# Altium schematic symbol library Schematic_Inductor.SchLib: 6 symbols
Pins are listed as number, name and electrical type; pins without a type are passive.

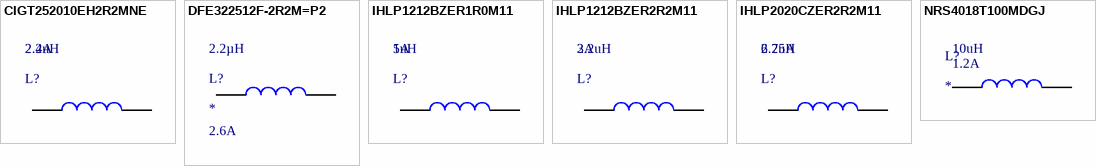
[diagram p0: symbols CIGT252010EH2R2MNE to NRS4018T100MDGJ]

## CIGT252010EH2R2MNE
designator L?  Current Rating: 2.4A  Inductance: 2.2uH  (hidden comment: *)
FIXED IND 2.2UH 2.4A 80MOHM SMD; Manufacturer: Samsung; Manufacturer Part Number: CIGT252010EH2R2MNE; Core Material: Metal,Composite; Tolerance: 20%; Saturation Current: 2.7A; Shielding: Unshielded; DC Resistance (DCR): 80mR; Test Frequency: 1MHz; Supplier 1: Digi-Key; RoHS: No; Stock 1: 35283; Pricing 1: 1=0.28000, 10=0.25300, 100=0.17390, 500=0.14864, 1000=0.11385 (USD); Mount: Surface Mount; Case/Package: 1008; Case Code (Imperial): 1008; Case Code (Metric): 2520; Min Operating Temperature: -40°C; Max Operating Temperature: 125°C; Composition: Thin Film; Packaging: Tape and Reel; ComponentLink1URL: http://www.samsungsem.com/kr/support/product-search/inductor/CIGT252010EH2R2MNE.jsp?src-supplier=Digi-Key; ComponentLink1Description: http://www.samsungsem.com/kr/support/product-search/inductor/CIGT252010EH2R2MNE.jsp?src-supplier=Digi-Key
footprint INDC2520X10N (Chip Inductor, 2-Leads, Body 2.50x2.00mm, IPC Medium Density)
pins: 1, 2

## DFE322512F-2R2M=P2
designator L?  value 2.2µH  Current Rating: 2.6A
Inductor Power Shielded Wirewound 2.2uH 20% 1MHz Metal 2.6A 0.066Ohm DCR 1210 T/R; Manufacturer: Murata; Manufacturer Part Number: DFE322512F-2R2M=P2; Manufacturer Lifecycle Status: IN PRODUCTION; DC Resistance (DCR): 66mΩ; Number of Circuits: 1; Saturation Current: 3.4A; Shielding: Yes; Supplier 1: DigiKey; RoHS: Compliant; Category: Fixed Inductors; Stock 1: 13919; Pricing 1: 1=0.44, 10=0.362, 100=0.2978, 1000=0.24487 (USD); Case/Package: 1210; Composition: Wirewound; Height: 1.2mm; Inductance Tolerance: 20%; Lifecycle Status: Production; Max Current Rating: 2.6A; Max Operating Temperature: 125°C; Min Operating Temperature: -40°C; Number of Terminals: 2; REACH SVHC: Yes; RMS Current (Irms): 2.6A; Schedule B: 8504500000; ESR: 66mΩ; Test Frequency: 1MHz; Tolerance: 20%; Width: 2.5mm; ComponentLink1URL: https://datasheet.octopart.com:443/DFE322512F-2R2M%3DP2-Murata-datasheet-141261451.pdf?src-supplier=Ciiva; ComponentLink1Description: https://datasheet.octopart.com:443/DFE322512F-2R2M%3DP2-Murata-datasheet-141261451.pdf?src-supplier=Ciiva; ComponentLink2URL: https://datasheet.octopart.com:443/DFE322512F-2R2M%3DP2-Murata-datasheet-140651656.pdf?src-supplier=Ciiva; ComponentLink2Description: https://datasheet.octopart.com:443/DFE322512F-2R2M%3DP2-Murata-datasheet-140651656.pdf?src-supplier=Ciiva; ComponentLink3URL: https://datasheet.octopart.com:443/DFE322512F-2R2M%3DP2-Murata-datasheet-138707762.pdf?src-supplier=Ciiva; ComponentLink3Description: https://datasheet.octopart.com:443/DFE322512F-2R2M%3DP2-Murata-datasheet-138707762.pdf?src-supplier=Ciiva; ComponentLink4URL: https://datasheet.octopart.com:443/DFE322512F-2R2M%3DP2-Murata-datasheet-140568582.pdf?src-supplier=Arrow.cn; ComponentLink4Description: https://datasheet.octopart.com:443/DFE322512F-2R2M%3DP2-Murata-datasheet-140568582.pdf?src-supplier=Arrow.cn; ComponentLink5URL: https://datasheet.octopart.com:443/DFE322512F-2R2M%3DP2-Murata-datasheet-145449110.pdf?src-supplier=Geoflip; ComponentLink5Description: https://datasheet.octopart.com:443/DFE322512F-2R2M%3DP2-Murata-datasheet-145449110.pdf?src-supplier=Geoflip; ComponentLink6URL: http://sigma.octopart.com:80/reach_statement/Murata-company-16.pdf?src-supplier=Compliance+Statements; ComponentLink6Description: http://sigma.octopart.com:80/reach_statement/Murata-company-16.pdf?src-supplier=Compliance+Statements
footprint INDC3225X12N (Chip Inductor, 2-Leads, Body 3.20x2.50mm, IPC Medium Density)
pins: 1, 2

## IHLP1212BZER1R0M11
designator L?  Inductance: 1uH  Current Rating: 5A  (hidden comment: *)
FIXED IND 1UH 5A 24 MOHM SMD; Manufacturer: Vishay Dale; Manufacturer Part Number: IHLP1212BZER1R0M11; Core Material: Metal,Composite; Tolerance: 20%; DC Resistance (DCR): 24mR; Self Resonant Frequency: 75MHz; Shielding: Shielded; Saturation Current: 4.5A; Test Frequency: 100kHz; Supplier 1: Digi-Key; RoHS: Yes; Category: Fixed Inductors; Stock 1: 94740; Pricing 1: 1=1.45000, 10=1.34600, 100=0.97290, 500=0.74520, 1000=0.66240 (USD); Mount: Surface Mount; Case/Package: 1212; Number of Pins: 2; Case Code (Imperial): 1212; Contact Plating: Tin; Case Code (Metric): 3630; Min Operating Temperature: -55°C; Max Operating Temperature: 125°C; Packaging: Tape and Reel; Package Quantity: 3000; Inductance Tolerance: 20%; Max DC Current: 5A; Termination: SMD/SMT; RMS Current (Irms): 5A; Military Standard: Not; Length: 3.6mm; Height: 2mm; Depth: 3.2mm; Width: 0.118inch; Height - Seated (Max): 0.079inch; Radiation Hardening: No; REACH SVHC: Unknown; Lead Free: Lead Free; ComponentLink1URL: https://datasheet.ciiva.com/11798/0900766b8102b422-11798284.pdf?src-supplier=RSComponents; ComponentLink1Description: https://datasheet.ciiva.com/11798/0900766b8102b422-11798284.pdf?src-supplier=RSComponents; ComponentLink2URL: https://datasheet.ciiva.com/26821/getdatasheetpartid-180380-26821417.pdf?src-supplier=Verical; ComponentLink2Description: https://datasheet.ciiva.com/26821/getdatasheetpartid-180380-26821417.pdf?src-supplier=Verical; ComponentLink3URL: https://datasheet.ciiva.com/6688/lp12bz11-6688261.pdf?src-supplier=Digi-Key; ComponentLink3Description: https://datasheet.ciiva.com/6688/lp12bz11-6688261.pdf?src-supplier=Digi-Key; ComponentLink4URL: https://datasheet.ciiva.com/6688/lp12bz11-6688263.pdf?src-supplier=Digi-Key; ComponentLink4Description: https://datasheet.ciiva.com/6688/lp12bz11-6688263.pdf?src-supplier=Digi-Key; ComponentLink5URL: https://datasheet.ciiva.com/8017/652599-8017624.pdf?src-supplier=Element14; ComponentLink5Description: https://datasheet.ciiva.com/8017/652599-8017624.pdf?src-supplier=Element14; ComponentLink6URL: https://datasheet.ciiva.com/17268/lp12bz11-17268761.pdf?src-supplier=Avnet+Europe; ComponentLink6Description: https://datasheet.ciiva.com/17268/lp12bz11-17268761.pdf?src-supplier=Avnet+Europe; ComponentLink7URL: https://datasheet.ciiva.com/6688/lp12bz11-6688255.pdf?src-supplier=Digi-Key; ComponentLink7Description: https://datasheet.ciiva.com/6688/lp12bz11-6688255.pdf?src-supplier=Digi-Key; ComponentLink8URL: https://datasheet.ciiva.com/4957/lp12bz11-244380-4957957.pdf?src-supplier=Mouser; ComponentLink8Description: https://datasheet.ciiva.com/4957/lp12bz11-244380-4957957.pdf?src-supplier=Mouser; ComponentLink9URL: https://datasheet.ciiva.com/3081/lp12bz11-3081912.pdf?src-supplier=Avnet; ComponentLink9Description: https://datasheet.ciiva.com/3081/lp12bz11-3081912.pdf?src-supplier=Avnet
footprint INDM3030X20N (Molded Inductor, 2-Leads, Body 3.00x3.00mm, IPC Medium Density)
pins: 1, 2

## IHLP1212BZER2R2M11
designator L?  Current Rating: 3A  Inductance: 2.2uH  (hidden comment: *)
FIXED IND 2.2UH 3A 46 MOHM SMD; Manufacturer: Vishay Dale; Manufacturer Part Number: IHLP1212BZER2R2M11; Core Material: Metal,Composite,Ferrite; Tolerance: 20%; DC Resistance (DCR): 46mR; Self Resonant Frequency: 55MHz; Shielding: Shielded; Saturation Current: 3.3A; Test Frequency: 100kHz; Supplier 1: Digi-Key; RoHS: Yes; Category: Fixed Inductors; Stock 1: 1430; Pricing 1: 1=1.45000, 10=1.34600, 100=0.97290, 500=0.74520, 1000=0.66240 (USD); Mount: Surface Mount; Case/Package: 1212; Number of Pins: 2; Contact Plating: Tin; Min Operating Temperature: -55°C; Max Operating Temperature: 125°C; Packaging: Tape and Reel; Inductance Tolerance: 20%; Package Quantity: 3000; Max DC Current: 3A; Termination: SMD/SMT; RMS Current (Irms): 3A; Military Standard: Not; Length: 3.6mm; Height: 2mm; Depth: 3.2mm; Width: 3mm; Height - Seated (Max): 0.079inch; Radiation Hardening: No; REACH SVHC: Unknown; Lead Free: Lead Free; ComponentLink1URL: https://datasheet.ciiva.com/7290/1537140-7290128.pdf?src-supplier=Newark; ComponentLink1Description: https://datasheet.ciiva.com/7290/1537140-7290128.pdf?src-supplier=Newark; ComponentLink2URL: https://datasheet.ciiva.com/8017/1520470-8017625.pdf?src-supplier=Element14; ComponentLink2Description: https://datasheet.ciiva.com/8017/1520470-8017625.pdf?src-supplier=Element14; ComponentLink3URL: https://datasheet.ciiva.com/11798/0900766b8102b422-11798283.pdf?src-supplier=RSComponents; ComponentLink3Description: https://datasheet.ciiva.com/11798/0900766b8102b422-11798283.pdf?src-supplier=RSComponents; ComponentLink4URL: https://datasheet.ciiva.com/3866/lp12bz11-3866206.pdf?src-supplier=Arrow; ComponentLink4Description: https://datasheet.ciiva.com/3866/lp12bz11-3866206.pdf?src-supplier=Arrow; ComponentLink5URL: https://datasheet.ciiva.com/16335/lp12bz11-16335797.pdf?src-supplier=Future+Electronics; ComponentLink5Description: https://datasheet.ciiva.com/16335/lp12bz11-16335797.pdf?src-supplier=Future+Electronics; ComponentLink6URL: https://datasheet.ciiva.com/4953/lp12bz11-244380-4953990.pdf?src-supplier=Mouser; ComponentLink6Description: https://datasheet.ciiva.com/4953/lp12bz11-244380-4953990.pdf?src-supplier=Mouser; ComponentLink7URL: https://datasheet.ciiva.com/6688/lp12bz11-6688247.pdf?src-supplier=Digi-Key; ComponentLink7Description: https://datasheet.ciiva.com/6688/lp12bz11-6688247.pdf?src-supplier=Digi-Key; ComponentLink8URL: https://datasheet.ciiva.com/6688/lp12bz11-6688250.pdf?src-supplier=Digi-Key; ComponentLink8Description: https://datasheet.ciiva.com/6688/lp12bz11-6688250.pdf?src-supplier=Digi-Key; ComponentLink9URL: https://datasheet.ciiva.com/6688/lp12bz11-6688252.pdf?src-supplier=Digi-Key; ComponentLink9Description: https://datasheet.ciiva.com/6688/lp12bz11-6688252.pdf?src-supplier=Digi-Key; ComponentLink10URL: https://datasheet.ciiva.com/3081/lp12bz11-3081917.pdf?src-supplier=Avnet; ComponentLink10Description: https://datasheet.ciiva.com/3081/lp12bz11-3081917.pdf?src-supplier=Avnet; ComponentLink11URL: https://datasheet.ciiva.com/17268/lp12bz11-17268765.pdf?src-supplier=Avnet+Europe; ComponentLink11Description: https://datasheet.ciiva.com/17268/lp12bz11-17268765.pdf?src-supplier=Avnet+Europe
footprint INDM3030X20N (Molded Inductor, 2-Leads, Body 3.00x3.00mm, IPC Medium Density)
pins: 1, 2

## IHLP2020CZER2R2M11
designator L?  Current Rating: 6.75A  Inductance: 2.2uH  (hidden comment: *)
FIXED IND 2.2UH 6.75A 25 MOHM; Manufacturer: Vishay Dale; Manufacturer Part Number: IHLP2020CZER2R2M11; Core Material: Metal,Composite; Tolerance: 20%; DC Resistance (DCR): 25mR; Saturation Current: 5.5A; Shielding: Shielded; Self Resonant Frequency: 41MHz; Test Frequency: 100kHz; Supplier 1: Digi-Key; RoHS: Yes; Category: Fixed Inductors; Stock 1: 58349; Pricing 1: 1=2.39000, 10=2.20800, 100=1.54560, 500=1.25120, 1000=1.14080 (USD); Mount: Surface Mount; Case/Package: 2020; Contact Plating: Tin; Min Operating Temperature: -55°C; Max Operating Temperature: 125°C; Packaging: Tape and Reel; Inductance Tolerance: 20%; Package Quantity: 2000; Max DC Current: 5.5A; Termination: SMD/SMT; RMS Current (Irms): 6.75A; Military Standard: Not; Length: 5.74mm; Height: 3mm; Depth: 5.43mm; Width: 0.204inch; Height - Seated (Max): 0.118inch; Radiation Hardening: No; Lead Free: Lead Free; REACH SVHC: Unknown; ComponentLink1URL: https://datasheet.ciiva.com/11798/0900766b8102c930-11798352.pdf?src-supplier=RSComponents; ComponentLink1Description: https://datasheet.ciiva.com/11798/0900766b8102c930-11798352.pdf?src-supplier=RSComponents; ComponentLink2URL: https://datasheet.ciiva.com/1051/lp20cz11-1051642.pdf?src-supplier=Digi-Key; ComponentLink2Description: https://datasheet.ciiva.com/1051/lp20cz11-1051642.pdf?src-supplier=Digi-Key; ComponentLink3URL: https://datasheet.ciiva.com/1051/lp20cz11-1051643.pdf?src-supplier=Digi-Key; ComponentLink3Description: https://datasheet.ciiva.com/1051/lp20cz11-1051643.pdf?src-supplier=Digi-Key; ComponentLink4URL: https://datasheet.ciiva.com/17269/lp20cz11-17269547.pdf?src-supplier=Avnet+Europe; ComponentLink4Description: https://datasheet.ciiva.com/17269/lp20cz11-17269547.pdf?src-supplier=Avnet+Europe; ComponentLink5URL: https://datasheet.ciiva.com/1051/lp20cz11-1051644.pdf?src-supplier=Digi-Key; ComponentLink5Description: https://datasheet.ciiva.com/1051/lp20cz11-1051644.pdf?src-supplier=Digi-Key; ComponentLink6URL: https://datasheet.ciiva.com/24205/lp20cz11-24205966.pdf?src-supplier=Future+Electronics; ComponentLink6Description: https://datasheet.ciiva.com/24205/lp20cz11-24205966.pdf?src-supplier=Future+Electronics; ComponentLink7URL: https://datasheet.ciiva.com/46385/480942-46385615.pdf?src-supplier=Element14; ComponentLink7Description: https://datasheet.ciiva.com/46385/480942-46385615.pdf?src-supplier=Element14
footprint INDM5252X30N (Molded Inductor, 2-Leads, Body 5.18x5.18mm, IPC Medium Density)
pins: 1, 2

## NRS4018T100MDGJ
designator L?  value 10uH  Current Rating: 1.2A
Inductor Power Shielded Wirewound 10uH 20% 100KHz Ferrite 1.2A 0.18Ohm DCR 1515 T/R; Manufacturer: Taiyo Yuden; Manufacturer Part Number: NRS4018T100MDGJ; Self Resonant Frequency: 25MHz; Saturation Current: 1.3A; DC Resistance (DCR): 180mR; RoHS: Yes; Category: Fixed Inductors; Stock 1: 93034; Pricing 1: 1=0.18, 10=0.147, 100=0.1205, 1000=0.09909 (USD); Mounting Technology: Surface Mount; Case/Package: 4018; Pins: 2; Core Material: Ferrite; Min Operating Temperature: -25°C; Max Operating Temperature: 125°C; Package Quantity: 3500; Packaging: Tape and Reel; Tolerance: 20%; Shielding: Shielded; Max DC Current: 1.2A; Termination: SMD/SMT; Test Frequency: 100kHz; RMS Current (Irms): 1.2A; Series: NRS; ESR: 180mR; Inductance Tolerance: 20%; Length: 4mm; Width: 0.157inch; Height: 1.8mm; Depth: 4.2mm; Height - Seated (Max): 0.071inch; Lead Pitch: 2.8mm; Radiation Hardening: No; Halogen Free: Halogen Free; RoHS Compliant: Yes; Reach SVHC Compliant: No; Lead Free: Lead Free; ComponentLink1URL: https://datasheet.ciiva.com/8504/nrs4018t100mdgj-ss-8504500.pdf?src-supplier=Avnet; ComponentLink1Description: https://datasheet.ciiva.com/8504/nrs4018t100mdgj-ss-8504500.pdf?src-supplier=Avnet; ComponentLink2URL: https://datasheet.ciiva.com/25607/0900766b810b3cd2-25607943.pdf?src-supplier=Rs; ComponentLink2Description: https://datasheet.ciiva.com/25607/0900766b810b3cd2-25607943.pdf?src-supplier=Rs; ComponentLink3URL: https://datasheet.ciiva.com/7197/nrs4018t100mdgj-ss-7197570.pdf?src-supplier=Newark; ComponentLink3Description: https://datasheet.ciiva.com/7197/nrs4018t100mdgj-ss-7197570.pdf?src-supplier=Newark; Supplier 1: Digikey
footprint INDP4040X18N (Precision Wire Wound Inductor, 2-Leads, Body 4.00x4.00mm, IPC Medium Density)
pins: 1, 2